# Altium integrated library RC0805FR-0710ML.IntLib: 1 symbol
Pins are listed as number, name and electrical type; pins without a type are passive.

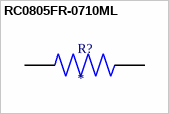
[diagram p0: symbol RC0805FR-0710ML]

## RC0805FR-0710ML
designator R?
10 MOhms Â±1% 0.125W, 1/8W Chip Resistor 0805 (2012 Metric) Moisture Resistant Thick Film; MF: Yageo; MP: RC0805FR-0710ML; SnapEDA_Link: https://www.snapeda.com/parts/RC0805FR-0710ML/Yageo/view-part/?ref=snap; Package: 2012 Yageo; Value: *; Check_prices: https://www.snapeda.com/parts/RC0805FR-0710ML/Yageo/view-part/?ref=eda
footprint RESC2012X60N
pins: 1, 2